# Altium schematic symbol library PASSIVE_COMPONENTS.SchLib: 2 symbols
Pins are listed as number, name and electrical type; pins without a type are passive.

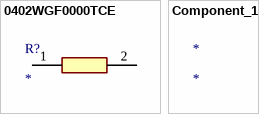
[diagram p0: symbols 0402WGF0000TCE to Component_1]

## 0402WGF0000TCE
designator R?
Resistor; Manufacturer_Name: UNI-ROYAL(Uniroyal Elec); Manufacturer_Part_Number: 0402WGF0000TCE; Description: Chip Resistor - Surface Mount 0Ohms +/-1% 1/16W 0402 RoHS; Datasheet Link: https://datasheet.lcsc.com/szlcsc/Uniroyal-Elec-0402WGF0000TCE_C17168.pdf; Height: 0.4mm
footprint RESC1005X40N
pins: 1, 2

## Component_1
designator *